# Altium schematic symbol library HIZ_PIN.SchLib: 1 symbol
Pins are listed as number, name and electrical type; pins without a type are passive.

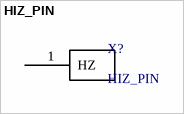
[diagram p0: symbol HIZ_PIN]

## HIZ_PIN
designator X?
High-Z pin test
pins: 1 HZ (hiz)